# Altium schematic symbol library LSM0603412V.SchLib: 1 symbol
Pins are listed as number, name and electrical type; pins without a type are passive.

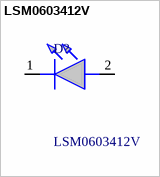
[diagram p0: symbol LSM0603412V]

## LSM0603412V
designator D?
Standard LEDs - SMD SMD 0603 2V 100mcd RED; Manufacturer_Name: Visual Communications Company; Geometry.Height: 0.65mm; Mouser Part Number: 593-LSM0603412V; Mouser Price/Stock: https://www.mouser.co.uk/ProductDetail/VCC/LSM0603412V?qs=%252BEew9%252B0nqrCIKpXilSWEhA%3D%3D; Manufacturer_Part_Number: LSM0603412V; Datasheet Link: https://vcclite.com/wp-content/uploads/wpallimport/files/files/LSM0603412V.pdf
footprint LSM0603412V
pins: 1 K, 2 A